# EAGLE library part RN8-ISOL (library ads4)
8-pin 4-resistor Resistor Network
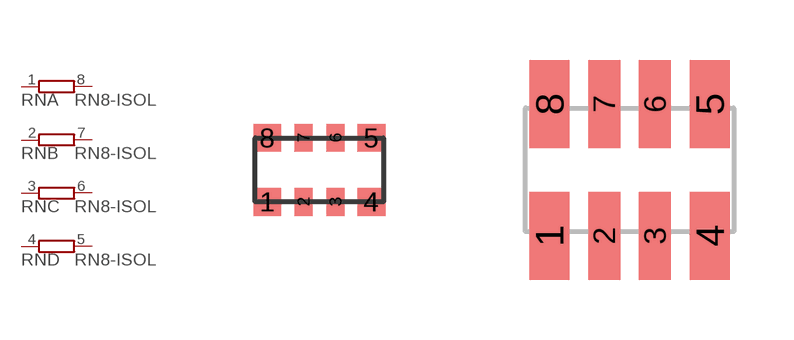
[diagram p11: symbol with the pads of 38V; footprints 38V, MNR34]

Designator prefix RN; gates A=RNV B=RNV C=RNV D=RNV

## RN8-ISOL  [38V]
1  A:1  pas
2  B:1  pas
3  C:1  pas
4  D:1  pas
5  D:2  pas
6  C:2  pas
7  B:2  pas
8  A:2  pas

## RN8-ISOLMNR34  [MNR34]
Pads as for 38V

## Footprint 38V (pad centres in mm)
Panasonic 38V DIL resistor pack 4-resistors 8-pins
smd 0.7 x 0.7: 1 -1.3,-0.8; 4 1.3,-0.8; 5 1.3,0.8; 8 -1.3,0.8
smd 0.45 x 0.7: 2 -0.4,-0.8; 3 0.4,-0.8; 6 0.4,0.8; 7 -0.4,0.8

## Footprint MNR34 (pad centres in mm)
Rohm MNR34 Resistor Network 5.2mm x 3.1mm, 1.27mm lead pitch
smd 1 x 2.2: 1 -2.005,-1.65; 4 2.005,-1.65; 5 2.005,1.65; 8 -2.005,1.65
smd 0.8 x 2.2: 2 -0.635,-1.65; 3 0.635,-1.65; 6 0.635,1.65; 7 -0.635,1.65